# EAGLE library part 95278-101A14LF (library 95278-101A14LF_snapEDA)
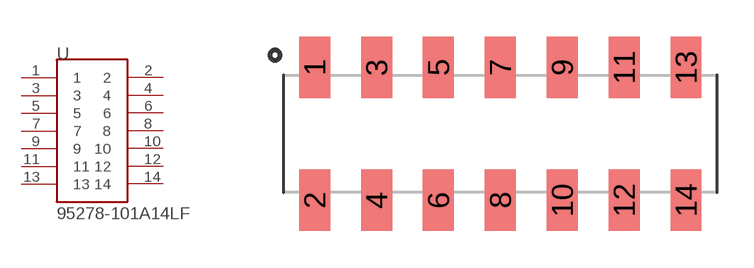
[diagram p1: symbol with the pads of 95278-101A14LF; footprint 95278-101A14LF]

Designator prefix -

## 95278-101A14LF  [95278-101A14LF]
1  1  pas
2  2  pas
3  3  pas
4  4  pas
5  5  pas
6  6  pas
7  7  pas
8  8  pas
9  9  pas
10  10  pas
11  11  pas
12  12  pas
13  13  pas
14  14  pas

## Footprint 95278-101A14LF (pad centres in mm)
smd 1.27 x 2.54: 1 -7.62,2.73; 2 -7.62,-2.73; 3 -5.08,2.73; 4 -5.08,-2.73; 5 -2.54,2.73; 6 -2.54,-2.73; 7 0,2.73; 8 0,-2.73; 9 2.54,2.73; 10 2.54,-2.73; 11 5.08,2.73; 12 5.08,-2.73; 13 7.62,2.73; 14 7.62,-2.73